# EAGLE library part IC_TC4469 (library psas_eagle_library)
Quad MOSFET Driver w/ AND-Invert gate
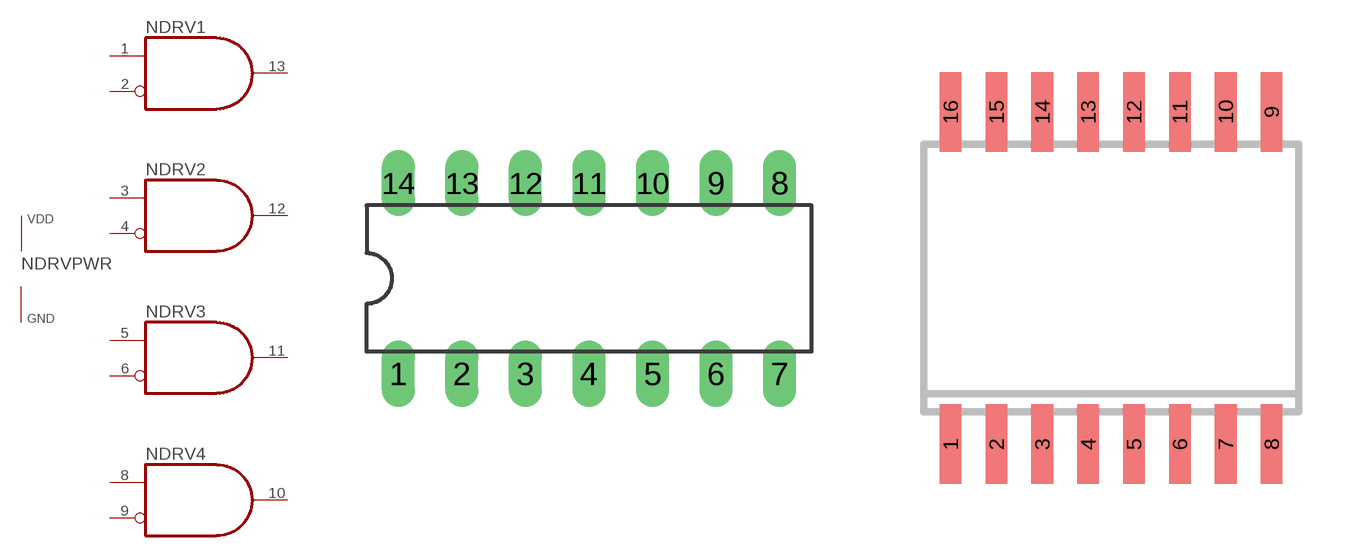
[diagram p8: symbol with the pads of DIL14; footprints DIL14, SO16W]

Designator prefix N; gates DRV1=AND-INVERT DRV2=AND-INVERT DRV3=AND-INVERT DRV4=AND-INVERT DRVPWR=VDD+GND

## IC_TC4469PD  [DIL14]
1  DRV1:A  in
2  DRV1:B  in
3  DRV2:A  in
4  DRV2:B  in
5  DRV3:A  in
6  DRV3:B  in
8  DRV4:A  in
9  DRV4:B  in
10  DRV4:Y  out
11  DRV3:Y  out
12  DRV2:Y  out
13  DRV1:Y  out

## IC_TC4469OE  [SO16W]
1  DRV1:A  in
2  DRV1:B  in
3  DRV2:A  in
4  DRV2:B  in
5  DRV3:A  in
6  DRV3:B  in
9  DRV4:A  in
10  DRV4:B  in
11  DRV4:Y  out
12  DRV3:Y  out
13  DRV2:Y  out
14  DRV1:Y  out

## Footprint DIL14 (pad centres in mm)
Dual In Line Package
drill 0.813 long: 1 -7.62,-3.81; 2 -5.08,-3.81; 3 -2.54,-3.81; 4 0,-3.81; 5 2.54,-3.81; 6 5.08,-3.81; 7 7.62,-3.81; 8 7.62,3.81; 9 5.08,3.81; 10 2.54,3.81; 11 0,3.81; 12 -2.54,3.81; 13 -5.08,3.81; 14 -7.62,3.81

## Footprint SO16W (pad centres in mm)
16 Pin SMALL OUTLINE INTEGRATED CIRCUIT wide body 7.5 mm / JEDEC MS-013AA
smd 0.6 x 2.2: 1 -4.445,-4.6; 2 -3.175,-4.6; 3 -1.905,-4.6; 4 -0.635,-4.6; 5 0.635,-4.6; 6 1.905,-4.6; 7 3.175,-4.6; 8 4.445,-4.6; 9 4.445,4.6; 10 3.175,4.6; 11 1.905,4.6; 12 0.635,4.6; 13 -0.635,4.6; 14 -1.905,4.6; 15 -3.175,4.6; 16 -4.445,4.6